# Altium schematic symbol library SamacSys.SchLib: 44 symbols
Pins are listed as number, name and electrical type; pins without a type are passive.

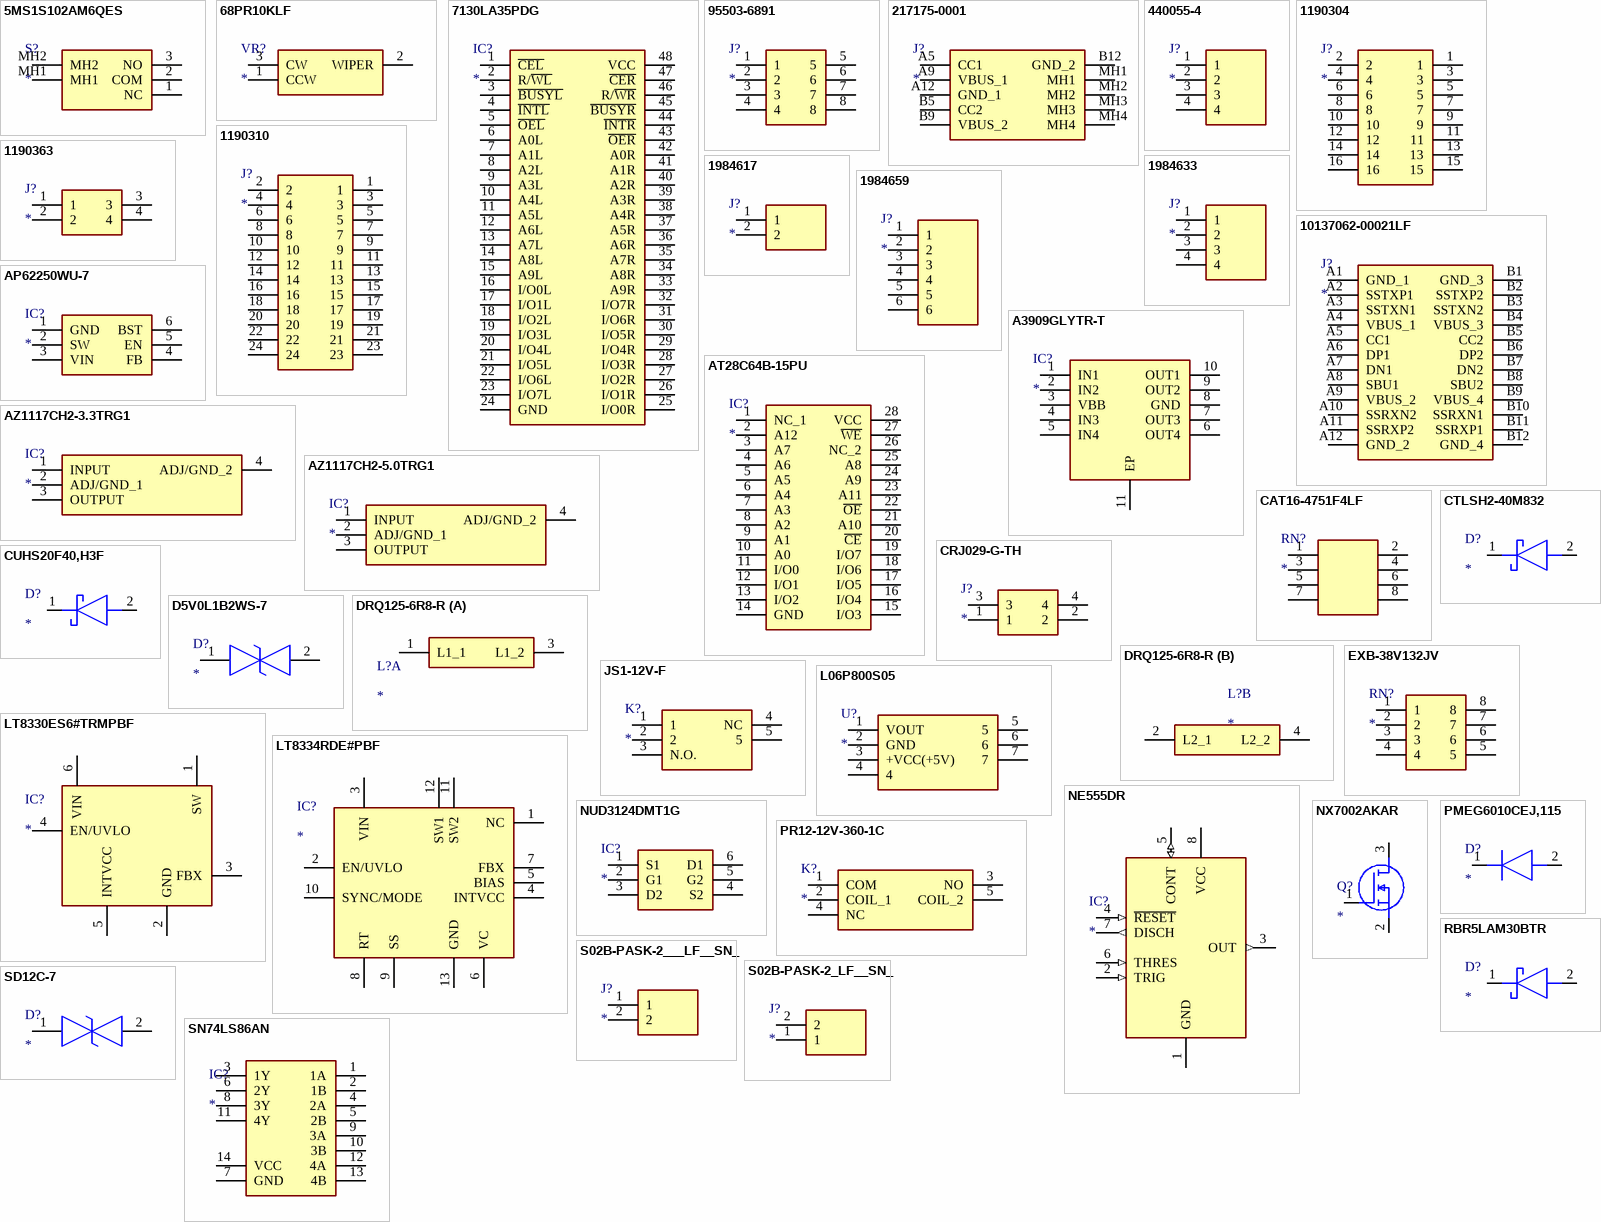
[diagram p0: symbols 5MS1S102AM6QES to SN74LS86AN]

## 5MS1S102AM6QES
designator S?
Switch; Manufacturer_Name: Dailywell; Manufacturer_Part_Number: 5MS1S102AM6QES; Datasheet Link: https://cz.mouser.com/datasheet/2/979/Dailywell_01132020_5M_Series-1708766.pdf; Height: 6.6mm; Mouser Part Number: 118-5MS1S102AM6QES; Mouser Price/Stock: https://www.mouser.co.uk/ProductDetail/Dailywell/5MS1S102AM6QES?qs=B6kkDfuK7%2FBHVJoQEkyphg%3D%3D
footprint 5MS1S102AM6QES
pins: 1 NC, 2 COM, 3 NO, MH1, MH2

## 68PR10KLF
designator VR?
Variable Resistor; Manufacturer_Name: BI Technologies; Manufacturer_Part_Number: 68PR10KLF; Datasheet Link: https://datasheet.datasheetarchive.com/originals/distributors/Datasheets-7/DSA-120238.pdf; Height: 6.22mm; Arrow Part Number: 68PR10KLF; Arrow Price/Stock: https://www.arrow.com/en/products/68pr10klf/bi-technologies
pins: 1 CCW, 2 WIPER, 3 CW

## 7130LA35PDG
designator IC?
Integrated Circuit; Manufacturer_Name: Renesas Electronics; Manufacturer_Part_Number: 7130LA35PDG; Datasheet Link: https://www.renesas.com/us/en/products/memory-logic/multi-port-memory/asynchronous-dual-port-rams/7130-1k-x-8-dual-port-ram; Height: 5.08mm; Mouser Part Number: 972-7130LA35PDG; Mouser Price/Stock: https://www.mouser.co.uk/ProductDetail/Renesas-IDT/7130LA35PDG?qs=JcGQCygHkIbDTyiFe0PjnA%3D%3D
footprint DIP1549W51P254L6185H508Q48N
pins: 1 ~{CEL}, 2 R/~{WL}, 3 ~{BUSYL}, 4 ~{INTL}, 5 ~{OEL}, 6 A0L, 7 A1L, 8 A2L, 9 A3L, 10 A4L, 11 A5L, 12 A6L, 13 A7L, 14 A8L, 15 A9L, 16 I/O0L, 17 I/O1L, 18 I/O2L, 19 I/O3L, 20 I/O4L, 21 I/O5L, 22 I/O6L, 23 I/O7L, 24 GND, 25 I/O0R, 26 I/O1R, 27 I/O2R, 28 I/O3R, 29 I/O4R, 30 I/O5R, 31 I/O6R, 32 I/O7R, 33 A9R, 34 A8R, 35 A7R, 36 A6R, 37 A5R, 38 A4R, 39 A3R, 40 A2R, 41 A1R, 42 A0R, 43 ~{OER}, 44 ~{INTR}, 45 ~{BUSYR}, 46 R/~{WR}, 47 ~{CER}, 48 VCC

## 95503-6891
designator J?
Connector; Manufacturer_Name: Molex; Manufacturer_Part_Number: 95503-6891; Datasheet Link: https://datasheet.datasheetarchive.com/originals/distributors/Datasheets-DGA5/408567.pdf; Mouser Part Number: 538-95503-6891; Mouser Price/Stock: https://www.mouser.co.uk/ProductDetail/Molex/95503-6891?qs=MJut%252BdqOEgjIr%252BakMzdZ%252BA%3D%3D
footprint 95503-6891
pins: 1, 2, 3, 4, 5, 6, 7, 8

## 217175-0001
designator J?
Connector; Manufacturer_Name: Molex; Manufacturer_Part_Number: 217175-0001; Datasheet Link: https://www.molex.com/pdm_docs/sd/2171750001_sd.pdf; Height: 3.46mm; Mouser Part Number: 538-217175-0001; Mouser Price/Stock: https://www.mouser.co.uk/ProductDetail/Molex/217175-0001?qs=DRkmTr78QARWJMiqNnldSg%3D%3D
footprint 2171750001
pins: A5 CC1, A9 VBUS_1, A12 GND_1, B5 CC2, B9 VBUS_2, B12 GND_2, MH1, MH2, MH3, MH4

## 440055-4
designator J?
Connector; Manufacturer_Name: TE Connectivity; Manufacturer_Part_Number: 440055-4; Datasheet Link: https://componentsearchengine.com/Datasheets/1/440055-4.pdf; Height: 5.25mm; Mouser Part Number: 571-440055-4; Mouser Price/Stock: https://www.mouser.co.uk/ProductDetail/TE-Connectivity/440055-4?qs=DE9Qji9blsTeqx7CwQ1BPA%3D%3D; Arrow Part Number: 440055-4; Arrow Price/Stock: https://www.arrow.com/en/products/440055-4/te-connectivity?region=nac
footprint SHDRRA4W50P15X200_1X4_1000X770X525P
pins: 1, 2, 3, 4

## 1190304
designator J?
Connector; Manufacturer_Name: Phoenix Contact; Manufacturer_Part_Number: 1190304; Datasheet Link: http://www.phoenixcontact.net/product/1190304; Height: 16.64mm; Mouser Part Number: 651-1190304; Mouser Price/Stock: https://www.mouser.co.uk/ProductDetail/Phoenix-Contact/1190304?qs=QNEnbhJQKvaihc94GiJFjw%3D%3D
footprint 1190304
pins: 1, 2, 3, 4, 5, 6, 7, 8, 9, 10, 11, 12, 13, 14, 15, 16

## 1190310
designator J?
Connector; Manufacturer_Name: Phoenix Contact; Manufacturer_Part_Number: 1190310; Datasheet Link: http://www.phoenixcontact.net/product/1190310; Height: 16.64mm; Mouser Part Number: 651-1190310; Mouser Price/Stock: https://www.mouser.co.uk/ProductDetail/Phoenix-Contact/1190310?qs=QNEnbhJQKvZAa77P7WOuuA%3D%3D
footprint 1190310
pins: 1, 2, 3, 4, 5, 6, 7, 8, 9, 10, 11, 12, 13, 14, 15, 16, 17, 18, 19, 20, 21, 22, 23, 24

## 1190363
designator J?
Connector; Manufacturer_Name: Phoenix Contact; Manufacturer_Part_Number: 1190363; Datasheet Link: http://www.phoenixcontact.net/product/1190363; Height: 20.28mm; Mouser Part Number: 651-1190363; Mouser Price/Stock: https://www.mouser.co.uk/ProductDetail/Phoenix-Contact/1190363?qs=QNEnbhJQKvZM1o20TNh%252B9Q%3D%3D
footprint 1190363
pins: 1, 2, 3, 4

## 1984617
designator J?
Connector; Manufacturer_Name: Phoenix Contact; Manufacturer_Part_Number: 1984617; Datasheet Link: https://datasheet.datasheetarchive.com/originals/distributors/Datasheets-DGA17/1074867.pdf; Height: 9.3mm; Mouser Part Number: 651-1984617; Mouser Price/Stock: https://www.mouser.co.uk/ProductDetail/Phoenix-Contact/1984617?qs=ATjOrvm3mOhUrGlJQoUcpQ%3D%3D; Arrow Part Number: 1984617; Arrow Price/Stock: https://www.arrow.com/en/products/1984617/phoenix-contact?region=nac
footprint 1984617
pins: 1, 2

## 1984633
designator J?
Connector; Manufacturer_Name: Phoenix Contact; Manufacturer_Part_Number: 1984633; Datasheet Link: https://datasheet.datasheetarchive.com/originals/distributors/SFDatasheet-2/sf-00059020.pdf; Height: 9.3mm; Mouser Part Number: 651-1984633; Mouser Price/Stock: https://www.mouser.co.uk/ProductDetail/Phoenix-Contact/1984633?qs=dKKAVK9nnHOP434WOXxXdg%3D%3D; Arrow Part Number: 1984633; Arrow Price/Stock: https://www.arrow.com/en/products/1984633/phoenix-contact?region=nac
footprint 1984633
pins: 1, 2, 3, 4

## 1984659
designator J?
Connector; Manufacturer_Name: Phoenix Contact; Manufacturer_Part_Number: 1984659; Datasheet Link: http://uk.rs-online.com/web/p/products/8045559; Height: 9.3mm; Mouser Part Number: 651-1984659; Mouser Price/Stock: https://www.mouser.co.uk/ProductDetail/Phoenix-Contact/1984659?qs=FQYO1eEgUPBU2UOuKgfwDQ%3D%3D; Arrow Part Number: 1984659; Arrow Price/Stock: https://www.arrow.com/en/products/1984659/phoenix-contact?region=nac
footprint 1984659
pins: 1, 2, 3, 4, 5, 6

## 10137062-00021LF
designator J?
Connector; Manufacturer_Name: Amphenol; Manufacturer_Part_Number: 10137062-00021LF; Datasheet Link: https://eu.mouser.com/datasheet/2/18/10137062-1362629.pdf; Height: 3.5mm; Mouser Part Number: 649-10137062-00021LF; Mouser Price/Stock: https://www.mouser.co.uk/ProductDetail/Amphenol-FCI/10137062-00021LF?qs=aXgFgf7IVODZGC3WWAwchA%3D%3D; Arrow Part Number: 10137062-00021LF; Arrow Price/Stock: https://www.arrow.com/en/products/10137062-00021lf/amphenol-fci?region=nac
footprint 1013706200021LF
pins: A1 GND_1, A2 SSTXP1, A3 SSTXN1, A4 VBUS_1, A5 CC1, A6 DP1, A7 DN1, A8 SBU1, A9 VBUS_2, A10 SSRXN2, A11 SSRXP2, A12 GND_2, B1 GND_3, B2 SSTXP2, B3 SSTXN2, B4 VBUS_3, B5 CC2, B6 DP2, B7 DN2, B8 SBU2, B9 VBUS_4, B10 SSRXN1, B11 SSRXP1, B12 GND_4

## A3909GLYTR-T
designator IC?
Integrated Circuit; Manufacturer_Name: Allegro Microsystems; Manufacturer_Part_Number: A3909GLYTR-T; Datasheet Link: http://www.allegromicro.com/~/media/files/datasheets/a3909-datasheet.pdf; Height: 1.06mm; Arrow Part Number: A3909GLYTR-T; Arrow Price/Stock: https://www.arrow.com/en/products/a3909glytr-t/allegro-microsystems
footprint SOP50P488X106-11N
pins: 1 IN1, 2 IN2, 3 VBB, 4 IN3, 5 IN4, 6 OUT4, 7 OUT3, 8 GND, 9 OUT2, 10 OUT1, 11 EP

## AP62250WU-7
designator IC?
Integrated Circuit; Manufacturer_Name: Diodes Inc.; Manufacturer_Part_Number: AP62250WU-7; Datasheet Link: https://www.diodes.com/assets/Datasheets/AP62250.pdf; Height: 1mm; Mouser Part Number: 621-AP62250WU-7; Mouser Price/Stock: https://www.mouser.co.uk/ProductDetail/Diodes-Incorporated/AP62250WU-7?qs=7MVldsJ5Uax1PUc8sdeimQ%3D%3D; Arrow Part Number: AP62250WU-7; Arrow Price/Stock: https://www.arrow.com/en/products/ap62250wu-7/diodes-incorporated?region=nac
footprint SOT95P280X100-6N
pins: 1 GND, 2 SW, 3 VIN, 4 FB, 5 EN, 6 BST

## AT28C64B-15PU
designator IC?
Integrated Circuit; Manufacturer_Name: Microchip; Manufacturer_Part_Number: AT28C64B-15PU; Datasheet Link: https://componentsearchengine.com//AT28C64B-15PU.pdf; Height: 4.826mm; Mouser2 Part Number: 556-AT28C64B15PU; Mouser2 Price/Stock: https://www.mouser.com/Search/Refine.aspx?Keyword=556-AT28C64B15PU
footprint DIP1556W56P254L3702H483Q28N
pins: 1 NC_1, 2 A12, 3 A7, 4 A6, 5 A5, 6 A4, 7 A3, 8 A2, 9 A1, 10 A0, 11 I/O0, 12 I/O1, 13 I/O2, 14 GND, 15 I/O3, 16 I/O4, 17 I/O5, 18 I/O6, 19 I/O7, 20 ~{CE}, 21 A10, 22 ~{OE}, 23 A11, 24 A9, 25 A8, 26 NC_2, 27 ~{WE}, 28 VCC

## AZ1117CH2-3.3TRG1
designator IC?
Integrated Circuit; Manufacturer_Name: Diodes Inc.; Manufacturer_Part_Number: AZ1117CH2-3.3TRG1; Datasheet Link: https://www.arrow.com/en/products/az1117ch2-3.3trg1/diodes-incorporated; Height: 1.8mm; Mouser Part Number: 621-AZ1117CH2-33TRG1; Mouser Price/Stock: https://www.mouser.co.uk/ProductDetail/Diodes-Incorporated/AZ1117CH2-3.3TRG1?qs=lQAVKuKFhkLc7jCxso2G3w%3D%3D; Arrow Part Number: AZ1117CH2-3.3TRG1; Arrow Price/Stock: https://www.arrow.com/en/products/az1117ch2-3.3trg1/diodes-incorporated?region=nac
footprint SOT230P700X180-4N
pins: 1 INPUT, 2 ADJ/GND_1, 3 OUTPUT, 4 ADJ/GND_2

## AZ1117CH2-5.0TRG1
designator IC?
Integrated Circuit; Manufacturer_Name: Diodes Incorporated; Manufacturer_Part_Number: AZ1117CH2-5.0TRG1; Datasheet Link: https://www.arrow.com/en/products/az1117ch2-5.0trg1/diodes-incorporated; Height: 1.8mm; Mouser Part Number: 621-AZ1117CH2-5.0TRG; Mouser Price/Stock: https://www.mouser.co.uk/ProductDetail/Diodes-Incorporated/AZ1117CH2-5.0TRG1?qs=5V6w%252Be2aIqb578qtLdqPjw%3D%3D; Arrow Part Number: AZ1117CH2-5.0TRG1; Arrow Price/Stock: https://www.arrow.com/en/products/az1117ch2-5.0trg1/diodes-incorporated
footprint SOT230P700X180-4N
pins: 1 INPUT, 2 ADJ/GND_1, 3 OUTPUT, 4 ADJ/GND_2

## CAT16-4751F4LF
designator RN?
Resistor Network; Manufacturer_Name: Bourns; Manufacturer_Part_Number: CAT16-4751F4LF; Datasheet Link: http://www.bourns.com/docs/Product-Datasheets/cat16-j.pdf; Height: 0.6mm; Mouser Part Number: 652-CAT16-4751F4LF; Mouser Price/Stock: https://www.mouser.co.uk/ProductDetail/Bourns/CAT16-4751F4LF?qs=vP03yYafZdFfyS1KGGbPOQ%3D%3D
footprint CAPCAV80P155X320X60-8L
pins: 1, 2, 3, 4, 5, 6, 7, 8

## CRJ029-G-TH
designator J?
Connector; Manufacturer_Name: CUI Inc.; Manufacturer_Part_Number: CRJ029-G-TH; Datasheet Link: https://www.cuidevices.com/product/resource/crj029-g-th.pdf; Height: 14.75mm; Mouser Part Number: 490-CRJ029-G-TH; Mouser Price/Stock: https://www.mouser.co.uk/ProductDetail/CUI-Devices/CRJ029-G-TH?qs=iLbezkQI%252Bsg4hjAOAa4IsA%3D%3D
footprint CRJ029GTH
pins: 1, 2, 3, 4

## CTLSH2-40M832
designator D?
Schottky Diode; Manufacturer_Name: Central Semiconductor; Manufacturer_Part_Number: CTLSH2-40M832; Datasheet Link: https://my.centralsemi.com/datasheets/CTLSH2-40M832.PDF; Height: 2mm
footprint CTLSH240M832
pins: 1 K, 2 A

## CUHS20F40,H3F
designator D?
Schottky Diode; Manufacturer_Name: Toshiba; Manufacturer_Part_Number: CUHS20F40,H3F; Datasheet Link: https://componentsearchengine.com/Datasheets/1/CUHS20F40,H3F.pdf; Mouser Part Number: 757-CUHS20F40H3F; Mouser Price/Stock: https://www.mouser.co.uk/ProductDetail/Toshiba/CUHS20F40H3F?qs=PqoDHHvF64%252B%2F27NPskrW9Q%3D%3D
footprint CUHS20F40H3F
pins: 1 K, 2 A

## D5V0L1B2WS-7
designator D?
TVS Diode (Bi-directional); Manufacturer_Name: Diodes Inc.; Manufacturer_Part_Number: D5V0L1B2WS-7; Datasheet Link: https://www.diodes.com/assets/Datasheets/D5V0L1B2WS.pdf; Height: 1.2mm; Mouser Part Number: 621-D5V0L1B2WS-7; Mouser Price/Stock: https://www.mouser.co.uk/ProductDetail/Diodes-Incorporated/D5V0L1B2WS-7?qs=gfe7vQ8txpVauHZXjiZDzg%3D%3D; Arrow Part Number: D5V0L1B2WS-7; Arrow Price/Stock: https://www.arrow.com/en/products/d5v0l1b2ws-7/diodes-incorporated?region=nac
footprint D5V0L1B2WS7
pins: 1, 2

## DRQ125-6R8-R
designator L?
Inductor; Manufacturer_Name: Eaton; Manufacturer_Part_Number: DRQ125-6R8-R; Datasheet Link: https://www.arrow.com/en/products/drq125-6r8-r/eaton; Height: 6mm; Mouser Part Number: 704-DRQ125-6R8-R; Mouser Price/Stock: https://www.mouser.co.uk/ProductDetail/Coiltronics-Eaton/DRQ125-6R8-R?qs=yzwxPInThYR4uozA737ypA%3D%3D; Arrow Part Number: DRQ125-6R8-R; Arrow Price/Stock: https://www.arrow.com/en/products/drq125-6r8-r/eaton
footprint DRQ1256R8R
part A pins: 1 L1_1, 3 L1_2
part B pins: 2 L2_1, 4 L2_2

## EXB-38V132JV
designator RN?
Resistor Network; Manufacturer_Name: Panasonic; Manufacturer_Part_Number: EXB-38V132JV; Datasheet Link: https://industrial.panasonic.com/cdbs/www-data/pdf/AOC0000/AOC0000C14.pdf; Height: 0.6mm; Mouser Part Number: 667-EXB-38V132JV; Mouser Price/Stock: https://www.mouser.co.uk/ProductDetail/Panasonic/EXB-38V132JV?qs=WwqriLBepZuuySSdwYXZFg%3D%3D
footprint EXB38V132JV
pins: 1, 2, 3, 4, 5, 6, 7, 8

## JS1-12V-F
designator K?
Relay or Contactor; Manufacturer_Name: Panasonic; Manufacturer_Part_Number: JS1-12V-F; Datasheet Link: https://datasheet.datasheetarchive.com/originals/distributors/Datasheets-24/DSA-473864.pdf; Mouser Part Number: 769-JS1-12V-F; Mouser Price/Stock: https://www.mouser.co.uk/ProductDetail/Panasonic-Industrial-Devices/JS1-12V-F?qs=UO%2Fx91QLkSAl%252Bp0dnjREtA%3D%3D; Arrow Part Number: JS1-12V-F; Arrow Price/Stock: https://www.arrow.com/en/products/js1-12v-f/panasonic?region=nac
footprint JS1-12V-F_1
pins: 1, 2, 3 N.O., 4 NC, 5

## L06P800S05
designator U?
Undefined or Miscellaneous; Manufacturer_Name: Tamura; Manufacturer_Part_Number: L06P800S05; Datasheet Link: https://componentsearchengine.com/Datasheets/1/L06P800S05.pdf; Height: 20mm; Mouser Part Number: 838-L06P800S05; Mouser Price/Stock: https://www.mouser.com/Search/Refine.aspx?Keyword=838-L06P800S05
footprint L06P800S05
pins: 1 VOUT, 2 GND, 3 +VCC(+5V), 4, 5, 6, 7

## LT8330ES6#TRMPBF
designator IC?
Integrated Circuit; Manufacturer_Name: Analog Devices; Manufacturer_Part_Number: LT8330ES6#TRMPBF; Datasheet Link: http://www.linear.com/docs/46730; Height: 1mm; Mouser Part Number: 584-LT8330ES6#TRMPBF; Mouser Price/Stock: https://www.mouser.co.uk/ProductDetail/Analog-Devices/LT8330ES6TRMPBF?qs=oahfZPh6IAIKbCw%252BFEt3ng%3D%3D; Arrow Part Number: LT8330ES6#TRMPBF; Arrow Price/Stock: https://www.arrow.com/en/products/lt8330es6trmpbf/linear-technology
footprint SOT95P280X100-6N
pins: 1 SW, 2 GND, 3 FBX, 4 EN/UVLO, 5 INTVCC, 6 VIN

## LT8334RDE#PBF
designator IC?
Integrated Circuit; Manufacturer_Name: Analog Devices; Manufacturer_Part_Number: LT8334RDE#PBF; Datasheet Link: https://www.arrow.com/en/products/lt8334rdepbf/analog-devices?region=nac; Height: 0.8mm; Mouser Part Number: 584-LT8334RDE#PBF; Mouser Price/Stock: https://www.mouser.co.uk/ProductDetail/Analog-Devices/LT8334RDEPBF?qs=Wj%2FVkw3K%252BMBLB%252BHBcd30ng%3D%3D; Arrow Part Number: LT8334RDE#PBF; Arrow Price/Stock: https://www.arrow.com/en/products/lt8334rdepbf/analog-devices?region=nac
footprint SON50P300X400X80-13N-D
pins: 1 NC, 2 EN/UVLO, 3 VIN, 4 INTVCC, 5 BIAS, 6 VC, 7 FBX, 8 RT, 9 SS, 10 SYNC/MODE, 11 SW2, 12 SW1, 13 GND

## NE555DR
designator IC?
Integrated Circuit; Manufacturer_Name: Texas Instruments; Manufacturer_Part_Number: NE555DR; Datasheet Link: http://www.ti.com/lit/ds/symlink/ne555.pdf; Height: 1.75mm; Mouser Part Number: 595-NE555DR; Mouser Price/Stock: https://www.mouser.com/Search/Refine.aspx?Keyword=595-NE555DR; RS Part Number: 1218414; RS Price/Stock: http://uk.rs-online.com/web/p/products/1218414
footprint SOIC127P600X175-8N
pins: 1 GND (power), 2 TRIG (in), 3 OUT (out), 4 ~{RESET} (in), 5 CONT (io), 6 THRES (in), 7 DISCH (out), 8 VCC (power)

## NUD3124DMT1G
designator IC?
Integrated Circuit; Manufacturer_Name: onsemi; Manufacturer_Part_Number: NUD3124DMT1G; Datasheet Link: http://www.onsemi.com/pub/Collateral/NUD3124-D.PDF; Height: 1.1mm; Mouser Part Number: 863-NUD3124DMT1G; Mouser Price/Stock: https://www.mouser.co.uk/ProductDetail/onsemi/NUD3124DMT1G?qs=ZXBb0xZ9WeDtXMbpPTBW4g%3D%3D; Arrow Part Number: NUD3124DMT1G; Arrow Price/Stock: https://www.arrow.com/en/products/nud3124dmt1g/on-semiconductor?region=nac
footprint SOT95P275X110-6N
pins: 1 S1, 2 G1, 3 D2, 4 S2, 5 G2, 6 D1

## NX7002AKAR
designator Q?
MOSFET (N-Channel); Manufacturer_Name: Nexperia; Manufacturer_Part_Number: NX7002AKAR; Datasheet Link: https://ms.componentsearchengine.com/Datasheets/2/NX7002AKAR.pdf; Height: 1.1mm; Mouser Part Number: 771-NX7002AKAR; Mouser Price/Stock: https://www.mouser.co.uk/ProductDetail/Nexperia/NX7002AKAR?qs=rkhjVJ6%2F3EJRNheJHlWytQ%3D%3D; Arrow Part Number: NX7002AKAR; Arrow Price/Stock: https://www.arrow.com/en/products/nx7002akar/nexperia?region=nac
footprint SOT95P230X110-3N
pins: 1 G, 2 S, 3 D

## PMEG6010CEJ,115
designator D?
Diode; Manufacturer_Name: Nexperia; Manufacturer_Part_Number: PMEG6010CEJ,115; Datasheet Link: https://assets.nexperia.com/documents/data-sheet/PMEG6010CEH_PMEG6010CEJ.pdf; Height: 0.8mm; Mouser Part Number: 771-PMEG6010CEJ-T/R; Mouser Price/Stock: https://www.mouser.co.uk/ProductDetail/Nexperia/PMEG6010CEJ115?qs=LOCUfHb8d9sJWWkUvN790w%3D%3D; Arrow Part Number: PMEG6010CEJ,115; Arrow Price/Stock: https://www.arrow.com/en/products/pmeg6010cej115/nexperia?region=nac
footprint SODFL2512X80N
pins: 1 K, 2 A

## PR12-12V-360-1C
designator K?
Relay or Contactor; Manufacturer_Name: CUI Devices; Manufacturer_Part_Number: PR12-12V-360-1C; Datasheet Link: https://www.cuidevices.com/product/resource/pr12.pdf; Height: 16.1mm; Mouser Part Number: 179-PR12-12V-360-1C; Mouser Price/Stock: https://www.mouser.co.uk/ProductDetail/CUI-Devices/PR12-12V-360-1C?qs=T%252BzbugeAwjg6aK6r1ZXrpA%3D%3D; Arrow Part Number: PR12-12V-360-1C; Arrow Price/Stock: https://www.arrow.com/en/products/pr12-12v-360-1c/cui-devices?region=nac
footprint PR1212V3601C
pins: 1 COM, 2 COIL_1, 3 NO, 4 NC, 5 COIL_2

## RBR5LAM30BTR
designator D?
Schottky Diode; Manufacturer_Name: ROHM Semiconductor; Manufacturer_Part_Number: RBR5LAM30BTR; Datasheet Link: https://fscdn.rohm.com/en/products/databook/datasheet/discrete/diode/schottky_barrier/rbr5lam30btr-e.pdf; Height: 1.05mm; Mouser Part Number: 755-RBR5LAM30BTR; Mouser Price/Stock: https://www.mouser.co.uk/ProductDetail/ROHM-Semiconductor/RBR5LAM30BTR?qs=4v%252BiZTmLVHGtLozrhLHugw%3D%3D
footprint SODFL4725X105N
pins: 1 K, 2 A

## S02B-PASK-2___LF__SN_
designator J?
Connector; Manufacturer_Name: JST (JAPAN SOLDERLESS TERMINALS); Manufacturer_Part_Number: S02B-PASK-2  (LF)(SN); Datasheet Link: https://www.jst-mfg.com/product/pdf/eng/ePA-F.pdf; Height: 6.5mm
footprint S02BPASK2LFSN
pins: 1, 2

## S02B-PASK-2_LF__SN_
designator J?
Connector; Manufacturer_Name: JST (JAPAN SOLDERLESS TERMINALS); Manufacturer_Part_Number: S02B-PASK-2(LF)(SN); Datasheet Link: http://www.jst-mfg.com/product/pdf/eng/ePA-F.pdf; Height: 6.5mm; Arrow Part Number: S02B-PASK-2(LF)(SN); Arrow Price/Stock: https://www.arrow.com/en/products/s02b-pask-2-lf-sn/jst-manufacturing?region=europe
footprint S02BPASK2LFSN
pins: 1, 2

## SD12C-7
designator D?
TVS Diode (Bi-directional); Manufacturer_Name: Diodes Inc.; Manufacturer_Part_Number: SD12C-7; Datasheet Link: https://www.diodes.com/assets/Datasheets/SD12C.pdf; Height: 1.2mm; Mouser Part Number: 621-SD12C-7; Mouser Price/Stock: https://www.mouser.co.uk/ProductDetail/Diodes-Incorporated/SD12C-7?qs=EBDBlbfErPxugjAb5VaoMA%3D%3D; Arrow Part Number: SD12C-7; Arrow Price/Stock: https://www.arrow.com/en/products/sd12c-7/diodes-incorporated?region=nac
footprint SD12C7
pins: 1, 2

## SN74LS86AN
designator IC?
Integrated Circuit; Manufacturer_Name: Texas Instruments; Manufacturer_Part_Number: SN74LS86AN; Datasheet Link: http://componentsearchengine.com/Datasheets/1/SN74LS86AN.pdf; Height: 5.08mm; Mouser Part Number: 595-SN74LS86AN; Mouser Price/Stock: https://www.mouser.co.uk/ProductDetail/Texas-Instruments/SN74LS86AN?qs=mTHRaKC2c7P%2FJtp1i2FCFw%3D%3D; Arrow Part Number: SN74LS86AN; Arrow Price/Stock: https://www.arrow.com/en/products/sn74ls86an/texas-instruments
footprint DIP794W53P254L1930H508Q14N
pins: 1 1A, 2 1B, 3 1Y, 4 2A, 5 2B, 6 2Y, 7 GND, 8 3Y, 9 3A, 10 3B, 11 4Y, 12 4A, 13 4B, 14 VCC

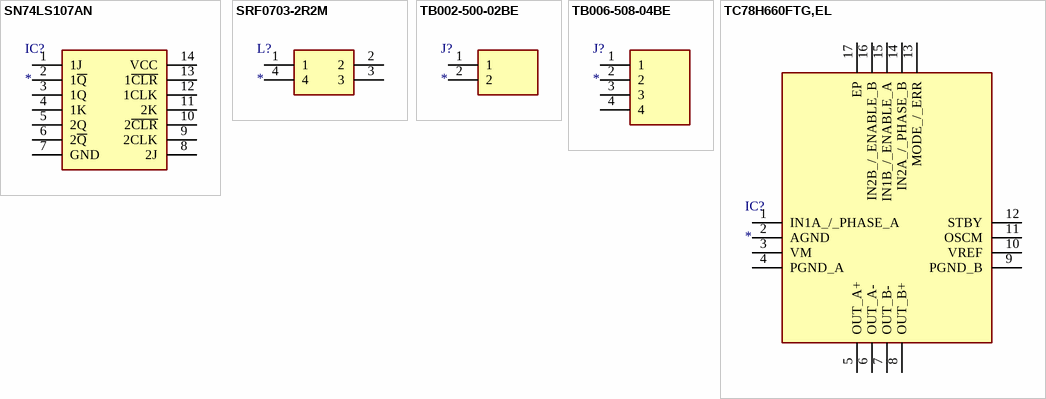
[diagram p1: symbols SN74LS107AN to TC78H660FTG,EL]

## SN74LS107AN
designator IC?
Integrated Circuit; Manufacturer_Name: Texas Instruments; Manufacturer_Part_Number: SN74LS107AN; Datasheet Link: http://componentsearchengine.com/Datasheets/3/SN74LS107AN.pdf; Height: 5.08mm; Mouser Part Number: 595-SN74LS107AN; Mouser Price/Stock: https://www.mouser.co.uk/ProductDetail/Texas-Instruments/SN74LS107AN?qs=HE9hdJajmepydgZvtE%2FvQg%3D%3D; Arrow Part Number: SN74LS107AN; Arrow Price/Stock: https://www.arrow.com/en/products/sn74ls107an/texas-instruments
footprint DIP794W53P254L1930H508Q14N
pins: 1 1J, 2 1~{Q}, 3 1Q, 4 1K, 5 2Q, 6 2~{Q}, 7 GND, 8 2J, 9 2CLK, 10 2~{CLR}, 11 2K, 12 1CLK, 13 1~{CLR}, 14 VCC

## SRF0703-2R2M
designator L?
Inductor; Manufacturer_Name: Bourns; Manufacturer_Part_Number: SRF0703-2R2M; Datasheet Link: https://www.bourns.com/docs/product-datasheets/srf0703.pdf; Height: 3.6mm; Mouser Part Number: 652-SRF0703-2R2M; Mouser Price/Stock: https://www.mouser.com/Search/Refine.aspx?Keyword=652-SRF0703-2R2M; Arrow Part Number: SRF0703-2R2M; Arrow Price/Stock: https://www.arrow.com/en/products/srf0703-2r2m/bourns
footprint SRF07032R2M
pins: 1, 2, 3, 4

## TB002-500-02BE
designator J?
Connector; Manufacturer_Name: CUI Devices; Manufacturer_Part_Number: TB002-500-02BE; Datasheet Link: https://eu.mouser.com/datasheet/2/670/tb002_500-1550579.pdf; Height: 10.4mm; Mouser Part Number: 490-TB002-500-02BE; Mouser Price/Stock: https://www.mouser.co.uk/ProductDetail/CUI-Devices/TB002-500-02BE?qs=vLWxofP3U2x9716kcgva%2Fw%3D%3D; Arrow Part Number: TB002-500-02BE; Arrow Price/Stock: https://www.arrow.com/en/products/tb002-500-02be/cui-devices?region=nac
footprint TB00250002BE
pins: 1, 2

## TB006-508-04BE
designator J?
Connector; Manufacturer_Name: CUI Devices; Manufacturer_Part_Number: TB006-508-04BE; Datasheet Link: https://componentsearchengine.com/Datasheets/1/TB006-508-04BE.pdf; Height: 4.1mm; Mouser Part Number: 490-TB006-508-04BE; Mouser Price/Stock: https://www.mouser.co.uk/ProductDetail/CUI-Devices/TB006-508-04BE?qs=vLWxofP3U2zpUvBkDCHiCA%3D%3D; Arrow Part Number: TB006-508-04BE; Arrow Price/Stock: https://www.arrow.com/en/products/tb006-508-04be/cui-devices?region=nac
footprint TB00650804BE
pins: 1, 2, 3, 4

## TC78H660FTG,EL
designator IC?
Integrated Circuit; Manufacturer_Name: Toshiba; Manufacturer_Part_Number: TC78H660FTG,EL; Datasheet Link: https://toshiba.semicon-storage.com/eu/semiconductor/product/motor-driver-ics/brushed-dc-motor-driver-ics/detail.TC78H660FTG.html; Height: 0.9mm; Mouser Part Number: 757-TC78H660FTGEL; Mouser Price/Stock: https://www.mouser.co.uk/ProductDetail/Toshiba/TC78H660FTGEL?qs=GBLSl2Akirut0oT06igwhw%3D%3D; Arrow Part Number: TC78H660FTG,EL; Arrow Price/Stock: https://www.arrow.com/en/products/tc78h660ftgel/toshiba?region=nac
footprint QFN50P300X300X90-17N
pins: 1 IN1A_/_PHASE_A, 2 AGND, 3 VM, 4 PGND_A, 5 OUT_A+, 6 OUT_A-, 7 OUT_B-, 8 OUT_B+, 9 PGND_B, 10 VREF, 11 OSCM, 12 STBY, 13 MODE_/_ERR, 14 IN2A_/_PHASE_B, 15 IN1B_/_ENABLE_A, 16 IN2B_/_ENABLE_B, 17 EP